# Altium schematic symbol library RSX_Fuses.SchLib: 4 symbols
Pins are listed as number, name and electrical type; pins without a type are passive.

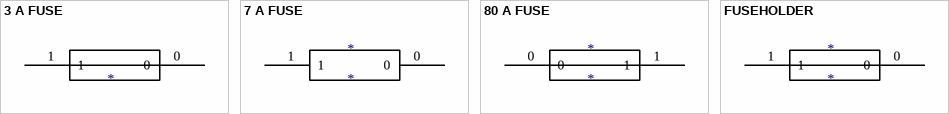
[diagram p0: symbols 3 A FUSE to FUSEHOLDER]

## 3 A FUSE
designator ?
footprint 3A FUSE ERB-RG3R00V (SMT 3A 32V FAST BLOW)
pins: 0, 1

## 7 A FUSE
designator *
footprint 7 A FUSE  0407007.WR (SMT 8A 24V I2C TIME LAG)
pins: 0, 1

## 80 A FUSE
designator *
footprint 80 A Fuse 1245HC80-RTR (SMT 80A 72V Brick Fuse)
pins: 0, 1

## FUSEHOLDER
designator *
footprint FUSEHOLDER 3557-20 (THT FUSEHOLDER 10 A 32 V FAST BLOW)
pins: 0, 1